# EAGLE library part MINIMOSD (library custom)
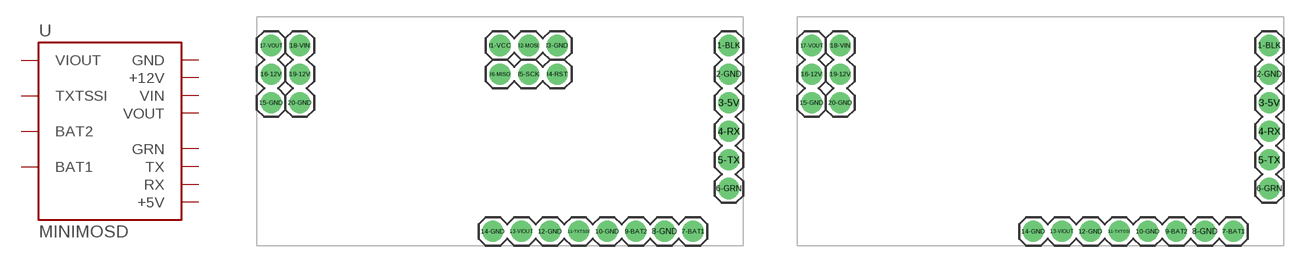
[diagram p108: symbol with the pads of MINIMOSD; footprints MINIMOSD, MINIMOSD_NOISP]

Designator prefix U

## MINIMOSDISP  [MINIMOSD]
1-BLK  GND
2-GND  GND
3-5V  +5V
4-RX  RX
5-TX  TX
6-GRN  GRN
7-BAT1  BAT1
8-GND  GND
9-BAT2  BAT2
10-GND  GND
11-TXTSSI  TXTSSI
12-GND  GND
13-VIOUT  VIOUT
14-GND  GND
15-GND  GND
16-12V  +12V
17-VOUT  VOUT
18-VIN  VIN
19-12V  +12V
20-GND  GND
I3-GND  GND

## MINIMOSD  [MINIMOSD_NOISP]
1-BLK  GND
2-GND  GND
3-5V  +5V
4-RX  RX
5-TX  TX
6-GRN  GRN
7-BAT1  BAT1
8-GND  GND
9-BAT2  BAT2
10-GND  GND
11-TXTSSI  TXTSSI
12-GND  GND
13-VIOUT  VIOUT
14-GND  GND
15-GND  GND
16-12V  +12V
17-VOUT  VOUT
18-VIN  VIN
19-12V  +12V
20-GND  GND

## Footprint MINIMOSD (pad centres in mm)
drill 1.016 pad 1.88: 1-BLK 20.32,7.62; 2-GND 20.32,5.08; 3-5V 20.32,2.54; 4-RX 20.32,0; 5-TX 20.32,-2.54; 6-GRN 20.32,-5.08; 7-BAT1 17.145,-8.89; 8-GND 14.605,-8.89; 9-BAT2 12.065,-8.89; 10-GND 9.525,-8.89; 11-TXTSSI 6.985,-8.89; 12-GND 4.445,-8.89; 13-VIOUT 1.905,-8.89; 14-GND -0.635,-8.89; 15-GND -20.32,2.54; 16-12V -20.32,5.08; 17-VOUT -20.32,7.62; 18-VIN -17.78,7.62; 19-12V -17.78,5.08; 20-GND -17.78,2.54; I1-VCC 0,7.62; I2-MOSI 2.54,7.62; I3-GND 5.08,7.62; I4-RST 5.08,5.08; I5-SCK 2.54,5.08; I6-MISO 0,5.08

## Footprint MINIMOSD_NOISP (pad centres in mm)
drill 1.016 pad 1.88: 1-BLK 20.32,7.62; 2-GND 20.32,5.08; 3-5V 20.32,2.54; 4-RX 20.32,0; 5-TX 20.32,-2.54; 6-GRN 20.32,-5.08; 7-BAT1 17.145,-8.89; 8-GND 14.605,-8.89; 9-BAT2 12.065,-8.89; 10-GND 9.525,-8.89; 11-TXTSSI 6.985,-8.89; 12-GND 4.445,-8.89; 13-VIOUT 1.905,-8.89; 14-GND -0.635,-8.89; 15-GND -20.32,2.54; 16-12V -20.32,5.08; 17-VOUT -20.32,7.62; 18-VIN -17.78,7.62; 19-12V -17.78,5.08; 20-GND -17.78,2.54